# Altium schematic symbol library TDA5250.SchLib: 1 symbol
Pins are listed as number, name and electrical type; pins without a type are passive.

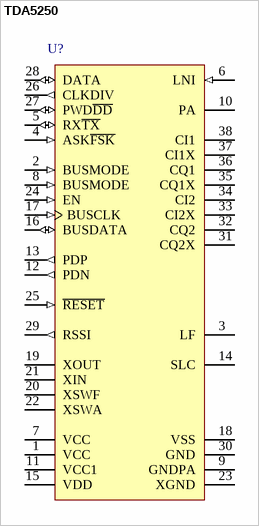
[diagram p0: symbol TDA5250]

## TDA5250
designator U?
868 MHz ASK / FSK Wireless Transceiver, -40 to 85 degC, PG-TSSOP-38, Green; Manufacturer: Infineon; PartNumber: TDA5250; Channel Requirements per Band: Single Channel; Frequency Band: 868 MHz; Green: yes; Transmit Power (at 3V): 9 dBm; DatasheetVersion: Rev. 1.7; PackageReference: PG-TSSOP-38; PackageDescription: 38-Pin Plastic (Green) Thin Shrink Small Outline Package, 9.7 x 4.4 mm Body, 0.5 mm Pitch; Supplier 1: Digi-Key; Supplier Part Number 1: TDA5250INTR-ND; Supplier 2: Digi-Key; Supplier Part Number 2: TDA5250INCT-ND; Supplier 3: Digi-Key; Supplier Part Number 3: TDA5250INDKR-ND; Supplier 4: Mouser; Supplier Part Number 4: 726-TDA5250; Group: Transceiver; Halogen-free: yes; Modulation Type: ASK / FSK; Mounting Technology: Surface Mount; ComponentLink1Description: Manufacturer URL; ComponentLink1URL: http://www.infineon.com/; ComponentLink2Description: Datasheet; ComponentLink2URL: http://www.infineon.com/dgdl/TDA5250_DS_V1.7.pdf?folderId=db3a30431689f4420116a096e1db033e&fileId=db3a3043191a246301192e72a7312c03&location=en.Products.Sensors___Wireless_Control.Wireless_Control.Transceiver.DATASHEET.TDA5250_DS_V1.7.pdf; ComponentLink3Description: Package Specification; ComponentLink3URL: http://www.infineon.com/cms/packages/SMD_-_Surface_Mounted_Devices/P-PG-TSSOP/P-PG-TSSOP-38-3.html?__locale=en
footprint INF-PG-TSSOP-38_N (SOP, 38-Leads, Body 9.7x4.4 mm, Pitch 0.5 mm, IPC Medium Density)
footprint INF-PG-TSSOP-38_L (SOP, 38-Leads, Body 9.7x4.4 mm, Pitch 0.5 mm, IPC High Density)
footprint INF-PG-TSSOP-38_M (SOP, 38-Leads, Body 9.7x4.4 mm, Pitch 0.5 mm, IPC Low Density)
pins: 1 VCC (power) "Analog supply(antiparallel diodes between VCC,VCC1,VDD )", 2 BUSMODE (in) "Bus mode selection (I2C/3 wire bus mode selection)", 3 LF "Loop filter and VCO control voltage", 4 ASK~{FSK} (in) "ASK/FSK- mode switch input", 5 RX~{TX} (io) "RX/TX-mode switch input/output", 6 LNI (in) "RF input to differential Low Noise(LNA)", 7 VCC (power) "Analog supply(antiparallel diodes between VCC,VCC1,VDD )", 8 BUSMODE (in) "Bus mode selection (I2C/3 wire bus mode selection)", 9 GNDPA (power) "Ground return for PA output stage", 10 PA (oc) "PA output stage", 11 VCC1 (power) "Supply for LNA and PA", 12 PDN (out) "Output of the negative peak detector", 13 PDP (out) "Output of the positive peakdetector", 14 SLC "Slicer level for the data slicer", 15 VDD (power) "Digital supply", 16 BUSDATA (io) "Bus data in/output", 17 BUSCLK (in) "Bus clock input", 18 VSS (power) "Ground for digital section", 19 XOUT "Crystal oscillator output,can also be used as external reference frequency input", 20 XSWF "FSK modulation switch", 21 XIN, 22 XSWA "ASK modulation/FSK center frequency switch", 23 XGND (power) "Crystal oscillator ground return", 24 EN (in) "3-wire bus enable input", 25 ~{RESET} (in) "Reset of the entire system(to default values),active low", 26 CLKDIV (out) "Clock output", 27 PWD~{DD} (io) "Power down input(acive  high),data detect output(active low)", 28 DATA (io) "TX Data input,RX data output(RX powerdown: pin 28 @ GND)", 29 RSSI (out) "RSSI output", 30 GND (power) "Analog ground", 31 CQ2X "Pin for external capacitor Q-channel stage 2", 32 CQ2 "Q-channel stage 2", 33 CI2X "I-channel stage 2", 34 CI2 "I-channel stage 2", 35 CQ1X "Q-channel stage 1", 36 CQ1 "Q-channel stage 1", 37 CI1X "I-channel stage 1", 38 CI1 "I-channel stage 1"